# Altium footprint library 20021321.PcbLib: 1 footprints
Each footprint in its own frame and in the unit in brackets; x right, y up, seen from the top. Pads: shape width x height; smd on the part's side, far side on the other; paste and mask are expansions set on the pad; w line width, h text height; cw(c..) or ccw(c..) is an arc to the next point about the centre after c.
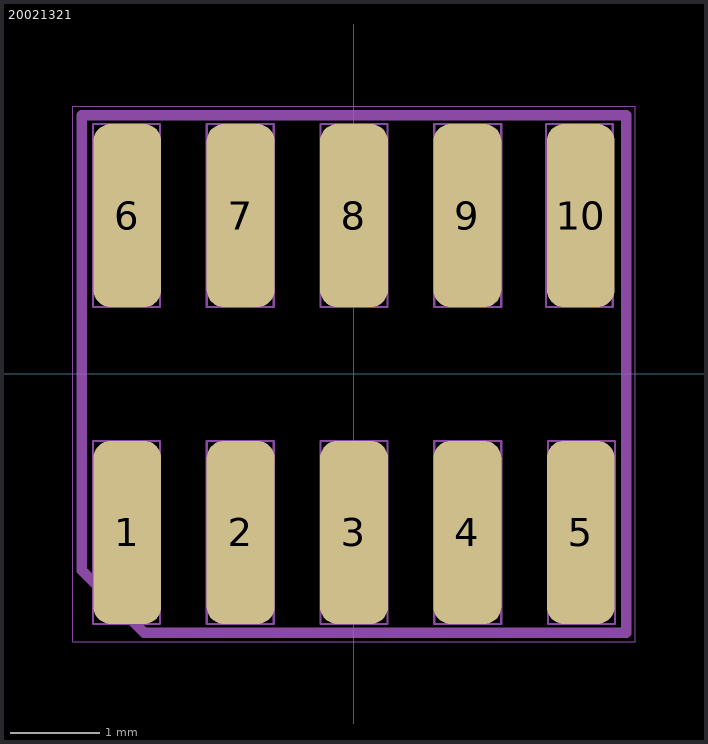
[diagram p0: the footprint, top view; thin cyan lines are the x and y axes]

## 20021321 [mm]
pads (10):
  rrect50% 0.76x2.05 smd: 1(-2.54,-1.775) 2(-1.27,-1.775) 3(0,-1.775) 4(1.27,-1.775) 5(2.54,-1.775) 6(-2.54,1.775) 7(-1.27,1.775) 8(0,1.775) 9(1.27,1.775) 10(2.54,1.775)
Mechanical 3:
  lines w0.12: -3.05,-2.2 -2.35,-2.9 3.05,-2.9 3.05,2.9 -3.05,2.9 -3.05,-2.2
Mechanical 5:
  lines w0.025: -2.925,-2.8 -2.175,-2.8 -2.175,-0.75 -2.925,-0.75 -2.925,-2.8 ; -2.925,0.75 -2.925,2.8 -2.175,2.8 -2.175,0.75 -2.925,0.75 ; -1.65,-2.8 -0.9,-2.8 -0.9,-0.75 -1.65,-0.75 -1.65,-2.8 ; -1.65,0.75 -1.65,2.8 -0.9,2.8 -0.9,0.75 -1.65,0.75 ; -0.375,-2.8 -0.375,-0.75 0.375,-0.75 0.375,-2.8 -0.375,-2.8 ; -0.375,0.75 -0.375,2.8 0.375,2.8 0.375,0.75 -0.375,0.75 ; 0.9,-2.8 0.9,-0.75 1.65,-0.75 1.65,-2.8 0.9,-2.8 ; 0.9,0.75 0.9,2.8 1.65,2.8 1.65,0.75 0.9,0.75 ; 2.15,0.75 2.15,2.8 2.9,2.8 2.9,0.75 2.15,0.75 ; 2.175,-2.8 2.175,-0.75 2.925,-0.75 2.925,-2.8 2.175,-2.8
Mechanical 7:
  lines w0.01: -3.15,-3 3.15,-3 3.15,3 -3.15,3 -3.15,-2.725 -3.15,-2.925 -3.15,-3
Mechanical 9:
  text "'.Designator'" at -5.925,-0.275 h1
3D body: height 1, standoff 0, extent -3.15,-3 3.15,3
3D body "20021321-00010T1LF.stp": height 4.5, standoff 0, extent -3.405,-2.2 3.405,2.3